# EAGLE library part BPA04SB (library thecustomgeek)
Part BPA04SB from C&K Components. SMD 4 position DIP switch, piano style.
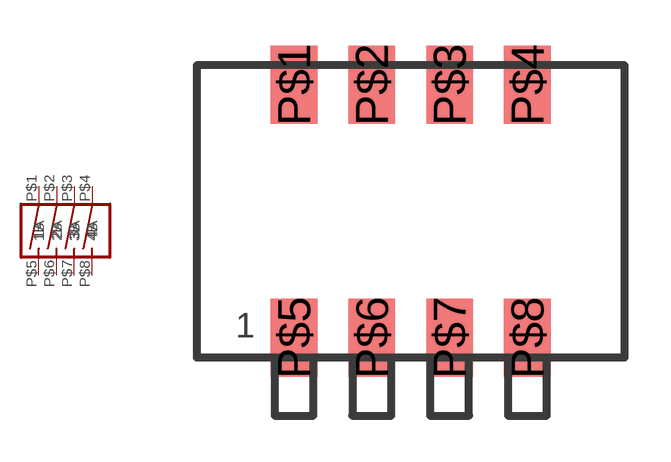
[diagram p8: symbol with the pads of BPA04SB; footprint BPA04SB]

Designator prefix -

## BPA04SB  [BPA04SB]
P$1  1A
P$2  2A
P$3  3A
P$4  4A
P$5  1B
P$6  2B
P$7  3B
P$8  4B

## Footprint BPA04SB (pad centres in mm)
smd 1.524 x 2.54: P$1 0,8.255; P$2 2.54,8.255; P$3 5.08,8.255; P$4 7.62,8.255; P$5 0,0; P$6 2.54,0; P$7 5.08,0; P$8 7.62,0